# EAGLE library part LM358 (library PiB_op_amps)
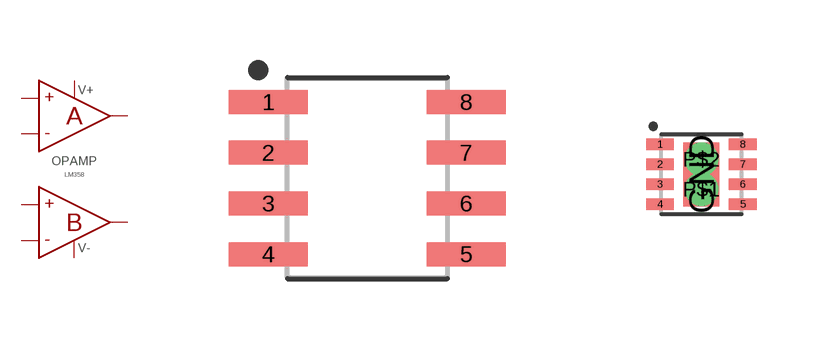
[diagram p0: symbol with the pads of SOIC127P600X175-8; footprints SOIC127P600X175-8, WSON-8-PPAD]

Designator prefix OPAMP

## LM358_SOIC-8 (DIST: Digikey; DISTLINK: https://www.digikey.com/products/en?keywords=LM358AMX%2FNOPBCT-ND; DISTPN: LM358AMX/NOPBCT-ND; MFR: Texas Instruments; MPN: LM358AMX/NOPB; VALUE: LM358)  [SOIC127P600X175-8]
1  OUT-A+  out
2  IN-A-  in
3  IN-A+  in
4  V-  pas
5  IN-B+  in
6  IN-B-  in
7  OUT-B  out
8  V+  pas

## LM358_DFN-EP (DATASHEET: http://www.st.com/content/ccc/resource/technical/document/datasheet/61/46/87/01/98/ed/44/c5/CD00000464.pdf/files/CD00000464.pdf/jcr:content/translations/en.CD00000464.pdf; DIST: Digikey; DISTLINK: https://www.digikey.com/products/en?keywords=497-12007-1-ND; DISTPN: 497-12007-1-ND; MFR: STMicroelectronics; MPN: LM358QT; VALUE: LM358)  [WSON-8-PPAD]
1  OUT-A+  out
2  IN-A-  in
3  IN-A+  in
4  V-  pas
5  IN-B+  in
6  IN-B-  in
7  OUT-B  out
8  V+  pas
GND  V-  pas
P$1  V-  pas
P$2  V-  pas

## Footprint SOIC127P600X175-8 (pad centres in mm)
8-SOIC, 1.27 mm pitch, 6 mm span, 4.9 X 3.9 X 1.75 mm body 8-pin SOIC package with 1.27 mm pitch, 6 mm span with body size 4.9 X 3.9 X 1.75 mm
smd 1.968 x 0.599: 1 -2.473,1.905; 2 -2.473,0.635; 3 -2.473,-0.635; 4 -2.473,-1.905; 5 2.473,-1.905; 6 2.473,-0.635; 7 2.473,0.635; 8 2.473,1.905

## Footprint WSON-8-PPAD (pad centres in mm)
smd 0.7 x 0.28: 1 -1.035,0.75; 2 -1.035,0.25; 3 -1.035,-0.25; 4 -1.035,-0.75; 5 1.035,-0.75; 6 1.035,-0.25; 7 1.035,0.25; 8 1.035,0.75
smd 0.9 x 1.6: GND 0,0
drill 0.33 pad 0.75: P$1 0,-0.38; P$2 0,0.37